# Altium schematic symbol library SQ-1.SCHLIB: 34 symbols
Pins are listed as number, name and electrical type; pins without a type are passive.

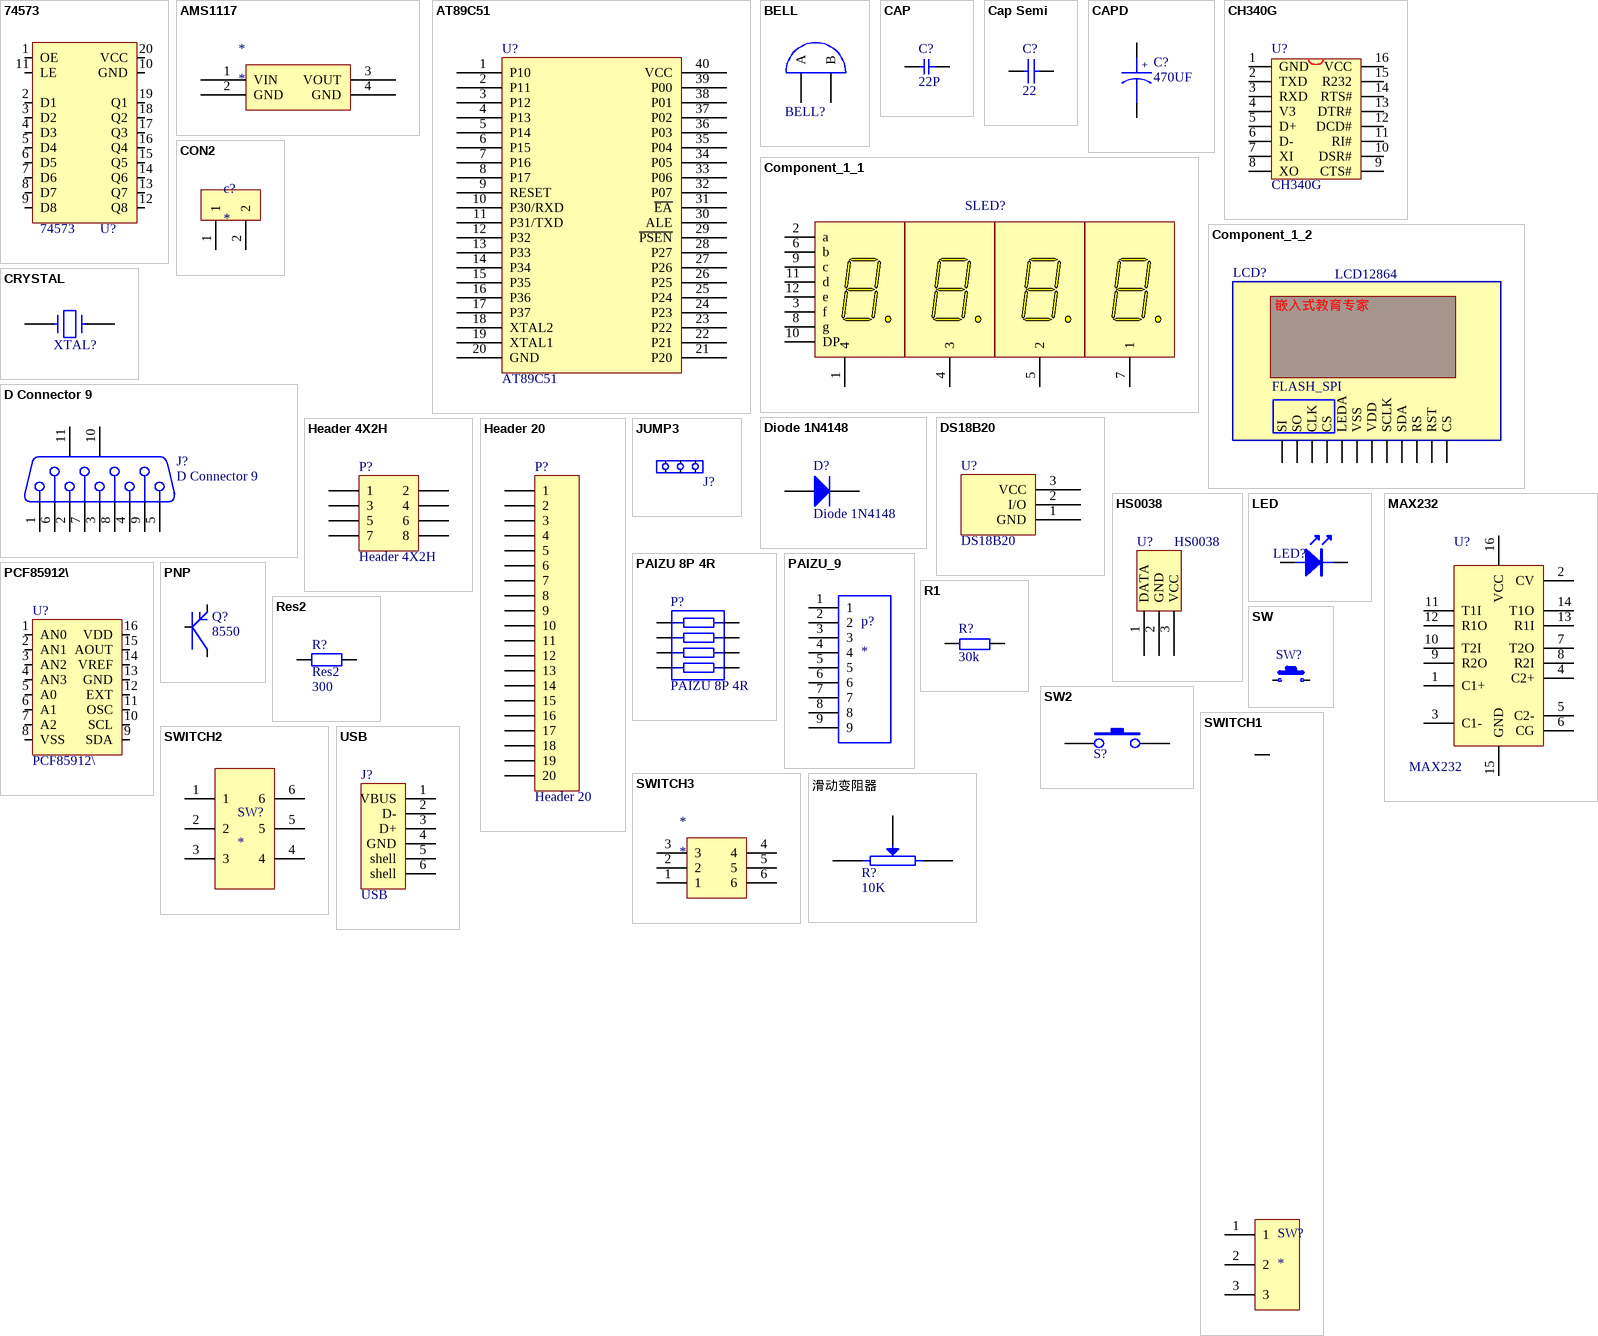
[diagram p0: symbols 74573 to 滑动变阻器]

## 74573
designator U?
footprint SO20W
footprint SO20W
pins: 1 OE, 2 D1, 3 D2, 4 D3, 5 D4, 6 D5, 7 D6, 8 D7, 9 D8, 10 GND, 11 LE, 12 Q8, 13 Q7, 14 Q6, 15 Q5, 16 Q4, 17 Q3, 18 Q2, 19 Q1, 20 VCC

## AMS1117
designator *
footprint AMS1117
pins: 1 VIN, 2 GND, 3 VOUT, 4 GND

## AT89C51
designator U?
footprint DIP40紧锁座
pins: 1 P10, 2 P11, 3 P12, 4 P13, 5 P14, 6 P15, 7 P16, 8 P17, 9 RESET, 10 P30/RXD, 11 P31/TXD, 12 P32, 13 P33, 14 P34, 15 P35, 16 P36, 17 P37, 18 XTAL2, 19 XTAL1, 20 GND, 21 P20, 22 P21, 23 P22, 24 P23, 25 P24, 26 P25, 27 P26, 28 P27, 29 ~{PSEN}, 30 ALE, 31 ~{EA}, 32 P07, 33 P06, 34 P05, 35 P04, 36 P03, 37 P02, 38 P01, 39 P00, 40 VCC

## BELL
designator BELL?  (value not drawn)
footprint BELL
pins: 1 A, 2 B

## CAP
designator C?, comment 22  (value not drawn)
C
footprint 0603C
footprint 0805C
footprint 1206C
pins: 1 2, 2
text: 22P

## Cap Semi
designator C?  value 22  (hidden comment: Cap Semi)
Capacitor (Semiconductor SIM Model); Published: 8-Jun-2000; LatestRevisionDate: 17-Jul-2002; LatestRevisionNote: Re-released for DXP Platform.; PackageReference: C1206; Publisher: Altium Limited
footprint C1206 (Chip Capacitor; Body 3.2 x 1.6 mm (LxW typ))
footprint 0402 (Chip Capacitor; Body 1.0 x 0.5 mm (LxW typ))
footprint 1310[0504] (Chip Capacitor; Body 1.2 x 1.0 mm (LxW typ))
footprint 1608[0603] (Chip Capacitor; Body 1.6 x 0.8 mm (LxW typ))
footprint C1210 (Chip Capacitor; Body 3.2 x 2.5 mm (LxW typ))
footprint 0805C
pins: 1, 2

## CAPD
designator C?  (value not drawn)
footprint RB470U
pins: 1, 2
text: +; 470UF

## CH340G
designator U?
USB2UART
footprint SOP16M
footprint SO-16
footprint SO-16
pins: 1 GND, 2 TXD, 3 RXD, 4 V3, 5 D+, 6 D-, 7 XI, 8 XO, 9 CTS#, 10 DSR#, 11 RI#, 12 DCD#, 13 DTR#, 14 RTS#, 15 R232, 16 VCC
2 alternate drawings of the same symbol

## Component_1_1
designator SLED?, comment Component_1  (value not drawn)
footprint SHUMAGUAN
pins: 1 4 "Anode", 2 a "Cathode", 3 f "Cathode", 4 3 "Anode", 5 2 "Anode", 6 b "Cathode", 7 1 "Anode", 8 g "Cathode", 9 c "Cathode", 10 DP "Cathode", 11 d "Cathode", 12 e "Cathode"

## Component_1_2
designator LCD?, comment LCD12864
footprint LCD12864
pins: 1 SI, 2 SO, 3 CLK, 4 CS, 5 LEDA, 6 VSS, 7 VDD, 8 SCLK, 9 SDA, 10 RS, 11 RST, 12 CS
text: 嵌入式教育专家; FLASH_SPI

## CON2
designator c?
footprint CON2
pins: 1, 2

## CRYSTAL
designator XTAL?  (value not drawn)
footprint XTAL
pins: 1, 2

## D Connector 9
designator J?
Receptacle Assembly, 9 Position, Right Angle; PackageDocument: O; Positions: 9; Published: 15-Jun-2001; LatestRevisionDate: 17-Jul-2002; LatestRevisionNote: Re-released for DXP Platform.; DatasheetDocument: 1-Sep-1999; PackageReference: 788750; Publisher: Altium Limited; Orientation: Right Angle; Gender: Receptacle
footprint DSUB1.385-2H9 (Connector; D Subminiature; 9 Position; Right Angle; Pitch 1.385 mm)
signal-integrity model Connector
pins: 1, 2, 3, 4, 5, 6, 7, 8, 9, 10 MH1, 11 MH2

## Diode 1N4148
designator D?
High Conductance Fast Diode; Published: 8-Jun-2000; LatestRevisionDate: 17-Jul-2002; LatestRevisionNote: Re-released for DXP Platform.; DatasheetVersion: 1997; PackageReference: DO-35; Publisher: Altium Limited; Code_JEDEC: DO-204-AH; ComponentLink1Description: Manufacturer Link; ComponentLink1URL: http://www.fairchildsemi.com/; ComponentLink2Description: Datasheet; ComponentLink2URL: http://www.fairchildsemi.com/ds/1N%2F1N4148.pdf
footprint SOD123F
pins: 1 A, 2 K

## DS18B20
designator U?
footprint DS18B20
pins: 1 GND, 2 I/O, 3 VCC

## Header 4X2H
designator P?
Header, 4-Pin, Dual row, Right Angle; LatestRevisionDate: 17-Jul-2002; LatestRevisionNote: Re-released for DXP Platform.; Publisher: Altium Limited
footprint HDR2X4H
signal-integrity model Connector
footprint HDR2X4H
footprint HDR2X4H
pins: 1, 2, 3, 4, 5, 6, 7, 8

## Header 20
designator P?
Header, 20-Pin; LatestRevisionDate: 17-Jul-2002; LatestRevisionNote: Re-released for DXP Platform.; Publisher: Altium Limited
footprint HDR1X20 (Connector; Header; 20 Position)
signal-integrity model Connector
pins: 1, 2, 3, 4, 5, 6, 7, 8, 9, 10, 11, 12, 13, 14, 15, 16, 17, 18, 19, 20

## HS0038
designator U?
footprint HS0038
pins: 1 DATA, 2 GND, 3 VCC
2 alternate drawings of the same symbol

## JUMP3
designator J?, comment Select  (value not drawn)
footprint CON3
pins: 1, 2, 3

## LED
designator LED?  (value not drawn)
footprint LED-2.54
footprint 0805-LED
pins: 1, 2

## MAX232
designator U?
footprint SO-16
footprint SO-16
pins: 1 C1+, 2 CV, 3 C1-, 4 C2+, 5 C2-, 6 CG, 7 T2O, 8 R2I, 9 R2O, 10 T2I, 11 T1I, 12 R1O, 13 R1I, 14 T1O, 15 GND, 16 VCC

## PAIZU 8P 4R
designator P?
footprint 8P4R_0603
pins: 1, 2, 3, 4, 5, 6, 7, 8

## PAIZU_9
designator p?
footprint PAIZU_9
pins: 1, 2, 3, 4, 5, 6, 7, 8, 9

## PCF85912\
designator U?
footprint SO16W
footprint SO16W
pins: 1 AN0, 2 AN1, 3 AN2, 4 AN3, 5 A0, 6 A1, 7 A2, 8 VSS, 9 SDA, 10 SCL, 11 OSC, 12 EXT, 13 GND, 14 VREF, 15 AOUT, 16 VDD

## PNP
designator Q?, comment 8550
footprint SOT-23
pins: 1, 2, 3

## R1
designator R?, comment 30k
R?
footprint 0603R
footprint 0805R
footprint 0805
pins: 1, 2

## Res2
designator R?  value 300
Resistor; Published: 8-Jun-2000; LatestRevisionDate: 17-Jul-2002; LatestRevisionNote: Re-released for DXP Platform.; PackageReference: AXIAL-0.4; Publisher: Altium Limited
footprint 0805
simulation model RESISTOR (Resistor)
signal-integrity model Res
pins: 1, 2

## SW
designator SW?  (value not drawn)
footprint SW3
footprint SW-PCB
footprint SWD
pins: 1, 2

## SW2
designator S?, comment Sa  (value not drawn)
footprint 拨动开关
pins: 1, 2

## SWITCH1
designator SW?
footprint SWITCH1
pins: 1, 2, 3

## SWITCH2
designator SW?
footprint SWITCH2
pins: 1, 2, 3, 4, 5, 6

## SWITCH3
designator *
footprint SWITCH3
pins: 1, 2, 3, 4, 5, 6

## USB
designator J?
footprint USB-B
pins: 1 VBUS, 2 D-, 3 D+, 4 GND, 5 shell, 6 shell

## 滑动变阻器
designator R?  (value not drawn)
footprint 滑动变阻器
pins: 1, 2, 3 W
text: 10K